# Altium integrated library TI Amplifiers and Linear Operational Amplifier Fully Differential Amplifier.IntLib: 262 symbols (part 1 of 11)
Pins are listed as number, name and electrical type; pins without a type are passive.

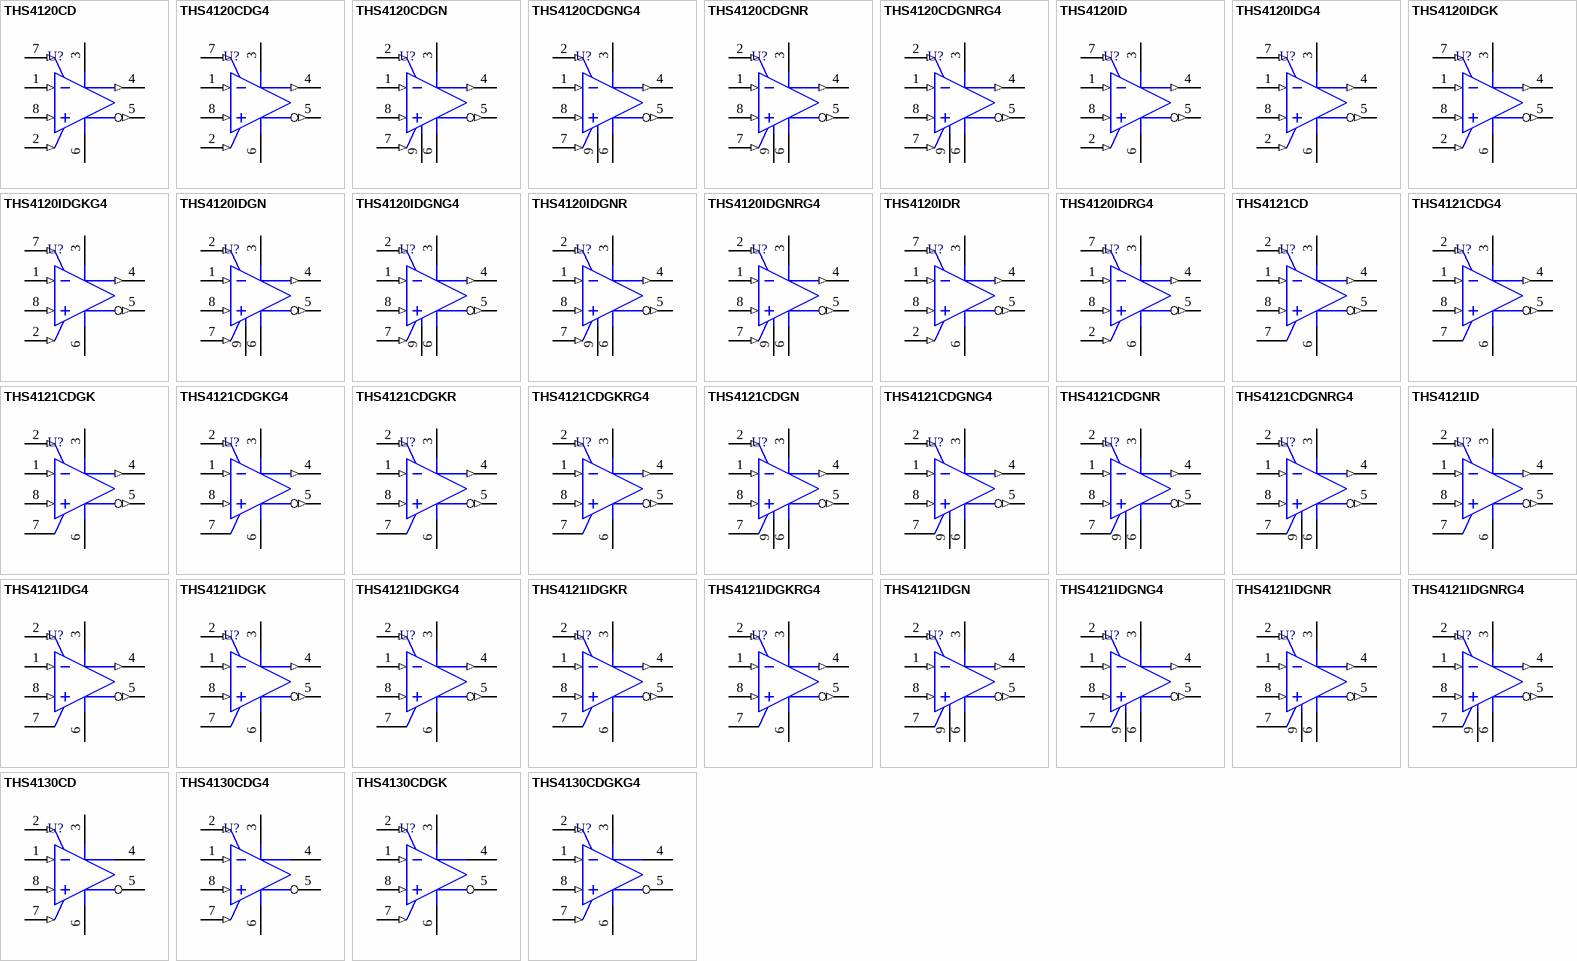
[diagram p0: symbols THS4120CD to THS4130CDGKG4]

## THS4120CD
designator U?
100 MHz, 43 V/us, Fully Differential CMOS Amplifier with Shutdown, 3 to 3.5 V, 0 to 70 degC, 8-pin SOIC (D8), Green (RoHS & no Sb/Br); Manufacturer: Texas Instruments; PartNumber: THS4120CD; 2nd Harmonic(dBc): 79; 3rd Harmonic(dBc): 93; @ MHz: 1; BW @ Acl(MHz): 100; Iq per channel(Max)(mA): 13.5; Offset Voltage Drift (+/-)(Max)(uV/Degrees Celsius: 25; Settling Time (0.1%)(Typ)(ns): 60; Slew Rate(Typ)(V/us): 55; SubFamily: Fully Differential Amplifier; THD (Fc is 1 MHz)(Typ)(dB): -75; Vio(Max)(mV): 8; Vn at Flatband(Typ)(nV/rtHz): 5.4; Vs(Max)(V): 3.5; Vs(Min)(V): 3; DatasheetVersion: SLOS319D; PackageVersion: 4040047-3/M, 06/2011; PackageReference: D8; PackageDescription: 8-Pin Plastic Small Outline, Body 4.9 x 3.9 mm, Pitch 1.27 mm; Supplier 1: Digi-Key; Supplier Part Number 1: THS4120CD-ND; Supplier 2: Mouser; Supplier Part Number 2: 595-THS4120CD; Eco-Plan: Green (RoHS & no Sb/Br); Io(Typ)(mA): 100; Number of Channels: 1; Mounting Technology: Surface Mount; Code_JEDEC: MS-012; ComponentLink1Description: Manufacturer URL; ComponentLink1URL: http://www.ti.com/; ComponentLink2Description: Datasheet; ComponentLink2URL: http://www.ti.com/general/docs/lit/getliterature.tsp?genericPartNumber=THS4120&fileType=pdf; ComponentLink3Description: Package Specification; ComponentLink3URL: http://www.ti.com/litv/pdf/msoi002j
footprint TI-D8_N (SOIC, 8-Leads, Body 4.9x3.9mm, Pitch 1.27mm, IPC Medium Density)
footprint TI-D8_L (SOIC, 8-Leads, Body 4.9x3.9mm, Pitch 1.27mm, IPC High Density)
footprint TI-D8_M (SOIC, 8-Leads, Body 4.9x3.9mm, Pitch 1.27mm, IPC Low Density)
pins: 1 VIN- (in), 2 VOCM (in), 3 VDD (power), 4 VOUT+ (out), 5 VOUT- (out), 6 GND (power), 7 ~{PD} (in), 8 VIN+ (in)

## THS4120CDG4
designator U?
100 MHz, 43 V/us, Fully Differential CMOS Amplifier with Shutdown, 3 to 3.5 V, 0 to 70 degC, 8-pin SOIC (D8), Green (RoHS & no Sb/Br); Manufacturer: Texas Instruments; PartNumber: THS4120CDG4; 2nd Harmonic(dBc): 79; 3rd Harmonic(dBc): 93; @ MHz: 1; BW @ Acl(MHz): 100; Iq per channel(Max)(mA): 13.5; Offset Voltage Drift (+/-)(Max)(uV/Degrees Celsius: 25; Settling Time (0.1%)(Typ)(ns): 60; Slew Rate(Typ)(V/us): 55; SubFamily: Fully Differential Amplifier; THD (Fc is 1 MHz)(Typ)(dB): -75; Vio(Max)(mV): 8; Vn at Flatband(Typ)(nV/rtHz): 5.4; Vs(Max)(V): 3.5; Vs(Min)(V): 3; DatasheetVersion: SLOS319D; PackageVersion: 4040047-3/M, 06/2011; PackageReference: D8; PackageDescription: 8-Pin Plastic Small Outline, Body 4.9 x 3.9 mm, Pitch 1.27 mm; Supplier 1: Digi-Key; Supplier Part Number 1: THS4120CDG4-ND; Supplier 2: Newark; Supplier Part Number 2: 41M5385; Supplier 3: Mouser; Supplier Part Number 3: 595-THS4120CDG4; Eco-Plan: Green (RoHS & no Sb/Br); Io(Typ)(mA): 100; Number of Channels: 1; Mounting Technology: Surface Mount; Code_JEDEC: MS-012; ComponentLink1Description: Manufacturer URL; ComponentLink1URL: http://www.ti.com/; ComponentLink2Description: Datasheet; ComponentLink2URL: http://www.ti.com/general/docs/lit/getliterature.tsp?genericPartNumber=THS4120&fileType=pdf; ComponentLink3Description: Package Specification; ComponentLink3URL: http://www.ti.com/litv/pdf/msoi002j
footprint TI-D8_N (SOIC, 8-Leads, Body 4.9x3.9mm, Pitch 1.27mm, IPC Medium Density)
footprint TI-D8_L (SOIC, 8-Leads, Body 4.9x3.9mm, Pitch 1.27mm, IPC High Density)
footprint TI-D8_M (SOIC, 8-Leads, Body 4.9x3.9mm, Pitch 1.27mm, IPC Low Density)
pins: 1 VIN- (in), 2 VOCM (in), 3 VDD (power), 4 VOUT+ (out), 5 VOUT- (out), 6 GND (power), 7 ~{PD} (in), 8 VIN+ (in)

## THS4120CDGN
designator U?
100 MHz, 43 V/us, Fully Differential CMOS Amplifier with Shutdown, 3 to 3.5 V, 0 to 70 degC, 8-pin SOP (DGN8), Green (RoHS & no Sb/Br); Manufacturer: Texas Instruments; PartNumber: THS4120CDGN; 2nd Harmonic(dBc): 79; 3rd Harmonic(dBc): 93; @ MHz: 1; BW @ Acl(MHz): 100; Iq per channel(Max)(mA): 13.5; Offset Voltage Drift (+/-)(Max)(uV/Degrees Celsius: 25; Settling Time (0.1%)(Typ)(ns): 60; Slew Rate(Typ)(V/us): 55; SubFamily: Fully Differential Amplifier; THD (Fc is 1 MHz)(Typ)(dB): -75; Vio(Max)(mV): 8; Vn at Flatband(Typ)(nV/rtHz): 5.4; Vs(Max)(V): 3.5; Vs(Min)(V): 3; DatasheetVersion: SLOS319D; PackageVersion: 4073271/F, 05/2011; PackageReference: DGN8-1760X1425TP; PackageDescription: 8-Pin Plastic Small Outline, Body 3 x 3 mm, Pitch 0.65 mm; Supplier 1: Digi-Key; Supplier Part Number 1: 296-34211-5-ND; Supplier 2: Mouser; Supplier Part Number 2: 595-THS4120CDGN; Eco-Plan: Green (RoHS & no Sb/Br); Io(Typ)(mA): 100; Number of Channels: 1; Mounting Technology: Surface Mount; Code_JEDEC: MO-187; ComponentLink1Description: Manufacturer URL; ComponentLink1URL: http://www.ti.com/; ComponentLink2Description: Datasheet; ComponentLink2URL: http://www.ti.com/general/docs/lit/getliterature.tsp?genericPartNumber=THS4120&fileType=pdf; ComponentLink3Description: Package Specification; ComponentLink3URL: http://www.ti.com/litv/pdf/mpds046e
footprint TI-DGN8-1760X1425TP_N (SOP, 8-Leads, Body 3x3mm, Pitch 0.65mm, Thermal Pad 1.76x1.425mm, IPC Medium Density)
footprint TI-DGN8-1760X1425TP_L (SOP, 8-Leads, Body 3x3mm, Pitch 0.65mm, Thermal Pad 1.76x1.425mm, IPC High Density)
footprint TI-DGN8-1760X1425TP_M (SOP, 8-Leads, Body 3x3mm, Pitch 0.65mm, Thermal Pad 1.76 x 1.425 mm, IPC Low Density)
pins: 1 VIN- (in), 2 VOCM (in), 3 VDD (power), 4 VOUT+ (out), 5 VOUT- (out), 6 GND (power), 7 ~{PD} (in), 8 VIN+ (in), 9 EP

## THS4120CDGNG4
designator U?
100 MHz, 43 V/us, Fully Differential CMOS Amplifier with Shutdown, 3 to 3.5 V, 0 to 70 degC, 8-pin SOP (DGN8), Green (RoHS & no Sb/Br); Manufacturer: Texas Instruments; PartNumber: THS4120CDGNG4; 2nd Harmonic(dBc): 79; 3rd Harmonic(dBc): 93; @ MHz: 1; BW @ Acl(MHz): 100; Iq per channel(Max)(mA): 13.5; Offset Voltage Drift (+/-)(Max)(uV/Degrees Celsius: 25; Settling Time (0.1%)(Typ)(ns): 60; Slew Rate(Typ)(V/us): 55; SubFamily: Fully Differential Amplifier; THD (Fc is 1 MHz)(Typ)(dB): -75; Vio(Max)(mV): 8; Vn at Flatband(Typ)(nV/rtHz): 5.4; Vs(Max)(V): 3.5; Vs(Min)(V): 3; DatasheetVersion: SLOS319D; PackageVersion: 4073271/F, 05/2011; PackageReference: DGN8-1760X1425TP; PackageDescription: 8-Pin Plastic Small Outline, Body 3 x 3 mm, Pitch 0.65 mm; Supplier 1: Digi-Key; Supplier Part Number 1: THS4120CDGNG4-ND; Supplier 2: Mouser; Supplier Part Number 2: 595-THS4120CDGNG4; Eco-Plan: Green (RoHS & no Sb/Br); Io(Typ)(mA): 100; Number of Channels: 1; Mounting Technology: Surface Mount; Code_JEDEC: MO-187; ComponentLink1Description: Manufacturer URL; ComponentLink1URL: http://www.ti.com/; ComponentLink2Description: Datasheet; ComponentLink2URL: http://www.ti.com/general/docs/lit/getliterature.tsp?genericPartNumber=THS4120&fileType=pdf; ComponentLink3Description: Package Specification; ComponentLink3URL: http://www.ti.com/litv/pdf/mpds046e
footprint TI-DGN8-1760X1425TP_N (SOP, 8-Leads, Body 3x3mm, Pitch 0.65mm, Thermal Pad 1.76x1.425mm, IPC Medium Density)
footprint TI-DGN8-1760X1425TP_L (SOP, 8-Leads, Body 3x3mm, Pitch 0.65mm, Thermal Pad 1.76x1.425mm, IPC High Density)
footprint TI-DGN8-1760X1425TP_M (SOP, 8-Leads, Body 3x3mm, Pitch 0.65mm, Thermal Pad 1.76 x 1.425 mm, IPC Low Density)
pins: 1 VIN- (in), 2 VOCM (in), 3 VDD (power), 4 VOUT+ (out), 5 VOUT- (out), 6 GND (power), 7 ~{PD} (in), 8 VIN+ (in), 9 EP

## THS4120CDGNR
designator U?
100 MHz, 43 V/us, Fully Differential CMOS Amplifier with Shutdown, 3 to 3.5 V, 0 to 70 degC, 8-pin SOP (DGN8), Green (RoHS & no Sb/Br); Manufacturer: Texas Instruments; PartNumber: THS4120CDGNR; 2nd Harmonic(dBc): 79; 3rd Harmonic(dBc): 93; @ MHz: 1; BW @ Acl(MHz): 100; Iq per channel(Max)(mA): 13.5; Offset Voltage Drift (+/-)(Max)(uV/Degrees Celsius: 25; Settling Time (0.1%)(Typ)(ns): 60; Slew Rate(Typ)(V/us): 55; SubFamily: Fully Differential Amplifier; THD (Fc is 1 MHz)(Typ)(dB): -75; Vio(Max)(mV): 8; Vn at Flatband(Typ)(nV/rtHz): 5.4; Vs(Max)(V): 3.5; Vs(Min)(V): 3; DatasheetVersion: SLOS319D; PackageVersion: 4073271/F, 05/2011; PackageReference: DGN8-1760X1425TP; PackageDescription: 8-Pin Plastic Small Outline, Body 3 x 3 mm, Pitch 0.65 mm; Supplier 1: Digi-Key; Supplier Part Number 1: THS4120CDGNR-ND; Supplier 2: Mouser; Supplier Part Number 2: 595-THS4120CDGNR; Eco-Plan: Green (RoHS & no Sb/Br); Io(Typ)(mA): 100; Number of Channels: 1; Mounting Technology: Surface Mount; Code_JEDEC: MO-187; ComponentLink1Description: Manufacturer URL; ComponentLink1URL: http://www.ti.com/; ComponentLink2Description: Datasheet; ComponentLink2URL: http://www.ti.com/general/docs/lit/getliterature.tsp?genericPartNumber=THS4120&fileType=pdf; ComponentLink3Description: Package Specification; ComponentLink3URL: http://www.ti.com/litv/pdf/mpds046e
footprint TI-DGN8-1760X1425TP_N (SOP, 8-Leads, Body 3x3mm, Pitch 0.65mm, Thermal Pad 1.76x1.425mm, IPC Medium Density)
footprint TI-DGN8-1760X1425TP_L (SOP, 8-Leads, Body 3x3mm, Pitch 0.65mm, Thermal Pad 1.76x1.425mm, IPC High Density)
footprint TI-DGN8-1760X1425TP_M (SOP, 8-Leads, Body 3x3mm, Pitch 0.65mm, Thermal Pad 1.76 x 1.425 mm, IPC Low Density)
pins: 1 VIN- (in), 2 VOCM (in), 3 VDD (power), 4 VOUT+ (out), 5 VOUT- (out), 6 GND (power), 7 ~{PD} (in), 8 VIN+ (in), 9 EP

## THS4120CDGNRG4
designator U?
100 MHz, 43 V/us, Fully Differential CMOS Amplifier with Shutdown, 3 to 3.5 V, 0 to 70 degC, 8-pin SOP (DGN8), Green (RoHS & no Sb/Br); Manufacturer: Texas Instruments; PartNumber: THS4120CDGNRG4; 2nd Harmonic(dBc): 79; 3rd Harmonic(dBc): 93; @ MHz: 1; BW @ Acl(MHz): 100; Iq per channel(Max)(mA): 13.5; Offset Voltage Drift (+/-)(Max)(uV/Degrees Celsius: 25; Settling Time (0.1%)(Typ)(ns): 60; Slew Rate(Typ)(V/us): 55; SubFamily: Fully Differential Amplifier; THD (Fc is 1 MHz)(Typ)(dB): -75; Vio(Max)(mV): 8; Vn at Flatband(Typ)(nV/rtHz): 5.4; Vs(Max)(V): 3.5; Vs(Min)(V): 3; DatasheetVersion: SLOS319D; PackageVersion: 4073271/F, 05/2011; PackageReference: DGN8-1760X1425TP; PackageDescription: 8-Pin Plastic Small Outline, Body 3 x 3 mm, Pitch 0.65 mm; Supplier 1: Digi-Key; Supplier Part Number 1: THS4120CDGNRG4-ND; Supplier 2: Mouser; Supplier Part Number 2: 595-THS4120CDGNRG4; Eco-Plan: Green (RoHS & no Sb/Br); Io(Typ)(mA): 100; Number of Channels: 1; Mounting Technology: Surface Mount; Code_JEDEC: MO-187; ComponentLink1Description: Manufacturer URL; ComponentLink1URL: http://www.ti.com/; ComponentLink2Description: Datasheet; ComponentLink2URL: http://www.ti.com/general/docs/lit/getliterature.tsp?genericPartNumber=THS4120&fileType=pdf; ComponentLink3Description: Package Specification; ComponentLink3URL: http://www.ti.com/litv/pdf/mpds046e
footprint TI-DGN8-1760X1425TP_N (SOP, 8-Leads, Body 3x3mm, Pitch 0.65mm, Thermal Pad 1.76x1.425mm, IPC Medium Density)
footprint TI-DGN8-1760X1425TP_L (SOP, 8-Leads, Body 3x3mm, Pitch 0.65mm, Thermal Pad 1.76x1.425mm, IPC High Density)
footprint TI-DGN8-1760X1425TP_M (SOP, 8-Leads, Body 3x3mm, Pitch 0.65mm, Thermal Pad 1.76 x 1.425 mm, IPC Low Density)
pins: 1 VIN- (in), 2 VOCM (in), 3 VDD (power), 4 VOUT+ (out), 5 VOUT- (out), 6 GND (power), 7 ~{PD} (in), 8 VIN+ (in), 9 EP

## THS4120ID
designator U?
100 MHz, 43 V/us, Fully Differential CMOS Amplifier with Shutdown, 3 to 3.5 V, -40 to 85 degC, 8-pin SOIC (D8), Green (RoHS & no Sb/Br); Manufacturer: Texas Instruments; PartNumber: THS4120ID; 2nd Harmonic(dBc): 79; 3rd Harmonic(dBc): 93; @ MHz: 1; BW @ Acl(MHz): 100; Iq per channel(Max)(mA): 13.5; Offset Voltage Drift (+/-)(Max)(uV/Degrees Celsius: 25; Settling Time (0.1%)(Typ)(ns): 60; Slew Rate(Typ)(V/us): 55; SubFamily: Fully Differential Amplifier; THD (Fc is 1 MHz)(Typ)(dB): -75; Vio(Max)(mV): 8; Vn at Flatband(Typ)(nV/rtHz): 5.4; Vs(Max)(V): 3.5; Vs(Min)(V): 3; DatasheetVersion: SLOS319D; PackageVersion: 4040047-3/M, 06/2011; PackageReference: D8; PackageDescription: 8-Pin Plastic Small Outline, Body 4.9 x 3.9 mm, Pitch 1.27 mm; Supplier 1: Digi-Key; Supplier Part Number 1: 296-11983-5-ND; Supplier 2: Newark; Supplier Part Number 2: 76C6389; Supplier 3: Mouser; Supplier Part Number 3: 595-THS4120ID; Eco-Plan: Green (RoHS & no Sb/Br); Io(Typ)(mA): 100; Number of Channels: 1; Mounting Technology: Surface Mount; Code_JEDEC: MS-012; ComponentLink1Description: Manufacturer URL; ComponentLink1URL: http://www.ti.com/; ComponentLink2Description: Datasheet; ComponentLink2URL: http://www.ti.com/general/docs/lit/getliterature.tsp?genericPartNumber=THS4120&fileType=pdf; ComponentLink3Description: Package Specification; ComponentLink3URL: http://www.ti.com/litv/pdf/msoi002j
footprint TI-D8_N (SOIC, 8-Leads, Body 4.9x3.9mm, Pitch 1.27mm, IPC Medium Density)
footprint TI-D8_L (SOIC, 8-Leads, Body 4.9x3.9mm, Pitch 1.27mm, IPC High Density)
footprint TI-D8_M (SOIC, 8-Leads, Body 4.9x3.9mm, Pitch 1.27mm, IPC Low Density)
pins: 1 VIN- (in), 2 VOCM (in), 3 VDD (power), 4 VOUT+ (out), 5 VOUT- (out), 6 GND (power), 7 ~{PD} (in), 8 VIN+ (in)

## THS4120IDG4
designator U?
100 MHz, 43 V/us, Fully Differential CMOS Amplifier with Shutdown, 3 to 3.5 V, -40 to 85 degC, 8-pin SOIC (D8), Green (RoHS & no Sb/Br); Manufacturer: Texas Instruments; PartNumber: THS4120IDG4; 2nd Harmonic(dBc): 79; 3rd Harmonic(dBc): 93; @ MHz: 1; BW @ Acl(MHz): 100; Iq per channel(Max)(mA): 13.5; Offset Voltage Drift (+/-)(Max)(uV/Degrees Celsius: 25; Settling Time (0.1%)(Typ)(ns): 60; Slew Rate(Typ)(V/us): 55; SubFamily: Fully Differential Amplifier; THD (Fc is 1 MHz)(Typ)(dB): -75; Vio(Max)(mV): 8; Vn at Flatband(Typ)(nV/rtHz): 5.4; Vs(Max)(V): 3.5; Vs(Min)(V): 3; DatasheetVersion: SLOS319D; PackageVersion: 4040047-3/M, 06/2011; PackageReference: D8; PackageDescription: 8-Pin Plastic Small Outline, Body 4.9 x 3.9 mm, Pitch 1.27 mm; Supplier 1: Digi-Key; Supplier Part Number 1: THS4120IDG4-ND; Supplier 2: Newark; Supplier Part Number 2: 28M7730; Supplier 3: Mouser; Supplier Part Number 3: 595-THS4120IDG4; Eco-Plan: Green (RoHS & no Sb/Br); Io(Typ)(mA): 100; Number of Channels: 1; Mounting Technology: Surface Mount; Code_JEDEC: MS-012; ComponentLink1Description: Manufacturer URL; ComponentLink1URL: http://www.ti.com/; ComponentLink2Description: Datasheet; ComponentLink2URL: http://www.ti.com/general/docs/lit/getliterature.tsp?genericPartNumber=THS4120&fileType=pdf; ComponentLink3Description: Package Specification; ComponentLink3URL: http://www.ti.com/litv/pdf/msoi002j
footprint TI-D8_N (SOIC, 8-Leads, Body 4.9x3.9mm, Pitch 1.27mm, IPC Medium Density)
footprint TI-D8_L (SOIC, 8-Leads, Body 4.9x3.9mm, Pitch 1.27mm, IPC High Density)
footprint TI-D8_M (SOIC, 8-Leads, Body 4.9x3.9mm, Pitch 1.27mm, IPC Low Density)
pins: 1 VIN- (in), 2 VOCM (in), 3 VDD (power), 4 VOUT+ (out), 5 VOUT- (out), 6 GND (power), 7 ~{PD} (in), 8 VIN+ (in)

## THS4120IDGK
designator U?
100 MHz, 43 V/us, Fully Differential CMOS Amplifier with Shutdown, 3 to 3.5 V, -40 to 85 degC, 8-pin SOP (DGK8), Green (RoHS & no Sb/Br); Manufacturer: Texas Instruments; PartNumber: THS4120IDGK; 2nd Harmonic(dBc): 79; 3rd Harmonic(dBc): 93; @ MHz: 1; BW @ Acl(MHz): 100; Iq per channel(Max)(mA): 13.5; Offset Voltage Drift (+/-)(Max)(uV/Degrees Celsius: 25; Settling Time (0.1%)(Typ)(ns): 60; Slew Rate(Typ)(V/us): 55; SubFamily: Fully Differential Amplifier; THD (Fc is 1 MHz)(Typ)(dB): -75; Vio(Max)(mV): 8; Vn at Flatband(Typ)(nV/rtHz): 5.4; Vs(Max)(V): 3.5; Vs(Min)(V): 3; DatasheetVersion: SLOS319D; PackageVersion: 4073329/E, 05/2006; PackageReference: DGK8; PackageDescription: 8-Pin Thin Small Outline, Body 3 x 3 mm, Pitch 0.65 mm; Supplier 1: Digi-Key; Supplier Part Number 1: 296-18846-5-ND; Supplier 2: Mouser; Supplier Part Number 2: 595-THS4120IDGK; Eco-Plan: Green (RoHS & no Sb/Br); Io(Typ)(mA): 100; Number of Channels: 1; Mounting Technology: Surface Mount; Code_JEDEC: MO-187; ComponentLink1Description: Manufacturer URL; ComponentLink1URL: http://www.ti.com/; ComponentLink2Description: Datasheet; ComponentLink2URL: http://www.ti.com/general/docs/lit/getliterature.tsp?genericPartNumber=THS4120&fileType=pdf; ComponentLink3Description: Package Specification; ComponentLink3URL: http://www.ti.com/litv/pdf/mpds028d
footprint TI-DGK8_N (SOP, 8-Leads, Body 3x3mm, Pitch 0.65mm, IPC Medium Density)
footprint TI-DGK8_L (SOP, 8-Leads, Body 3x3mm, Pitch 0.65mm, IPC High Density)
footprint TI-DGK8_M (SOP, 8-Leads, Body 3x3mm, Pitch 0.65mm, IPC Low Density)
pins: 1 VIN- (in), 2 VOCM (in), 3 VDD (power), 4 VOUT+ (out), 5 VOUT- (out), 6 GND (power), 7 ~{PD} (in), 8 VIN+ (in)

## THS4120IDGKG4
designator U?
100 MHz, 43 V/us, Fully Differential CMOS Amplifier with Shutdown, 3 to 3.5 V, -40 to 85 degC, 8-pin SOP (DGK8), Green (RoHS & no Sb/Br); Manufacturer: Texas Instruments; PartNumber: THS4120IDGKG4; 2nd Harmonic(dBc): 79; 3rd Harmonic(dBc): 93; @ MHz: 1; BW @ Acl(MHz): 100; Iq per channel(Max)(mA): 13.5; Offset Voltage Drift (+/-)(Max)(uV/Degrees Celsius: 25; Settling Time (0.1%)(Typ)(ns): 60; Slew Rate(Typ)(V/us): 55; SubFamily: Fully Differential Amplifier; THD (Fc is 1 MHz)(Typ)(dB): -75; Vio(Max)(mV): 8; Vn at Flatband(Typ)(nV/rtHz): 5.4; Vs(Max)(V): 3.5; Vs(Min)(V): 3; DatasheetVersion: SLOS319D; PackageVersion: 4073329/E, 05/2006; PackageReference: DGK8; PackageDescription: 8-Pin Thin Small Outline, Body 3 x 3 mm, Pitch 0.65 mm; Supplier 1: Digi-Key; Supplier Part Number 1: THS4120IDGKG4-ND; Supplier 2: Mouser; Supplier Part Number 2: 595-THS4120IDGKG4; Eco-Plan: Green (RoHS & no Sb/Br); Io(Typ)(mA): 100; Number of Channels: 1; Mounting Technology: Surface Mount; Code_JEDEC: MO-187; ComponentLink1Description: Manufacturer URL; ComponentLink1URL: http://www.ti.com/; ComponentLink2Description: Datasheet; ComponentLink2URL: http://www.ti.com/general/docs/lit/getliterature.tsp?genericPartNumber=THS4120&fileType=pdf; ComponentLink3Description: Package Specification; ComponentLink3URL: http://www.ti.com/litv/pdf/mpds028d
footprint TI-DGK8_N (SOP, 8-Leads, Body 3x3mm, Pitch 0.65mm, IPC Medium Density)
footprint TI-DGK8_L (SOP, 8-Leads, Body 3x3mm, Pitch 0.65mm, IPC High Density)
footprint TI-DGK8_M (SOP, 8-Leads, Body 3x3mm, Pitch 0.65mm, IPC Low Density)
pins: 1 VIN- (in), 2 VOCM (in), 3 VDD (power), 4 VOUT+ (out), 5 VOUT- (out), 6 GND (power), 7 ~{PD} (in), 8 VIN+ (in)

## THS4120IDGN
designator U?
100 MHz, 43 V/us, Fully Differential CMOS Amplifier with Shutdown, 3 to 3.5 V, -40 to 85 degC, 8-pin SOP (DGN8), Green (RoHS & no Sb/Br); Manufacturer: Texas Instruments; PartNumber: THS4120IDGN; 2nd Harmonic(dBc): 79; 3rd Harmonic(dBc): 93; @ MHz: 1; BW @ Acl(MHz): 100; Iq per channel(Max)(mA): 13.5; Offset Voltage Drift (+/-)(Max)(uV/Degrees Celsius: 25; Settling Time (0.1%)(Typ)(ns): 60; Slew Rate(Typ)(V/us): 55; SubFamily: Fully Differential Amplifier; THD (Fc is 1 MHz)(Typ)(dB): -75; Vio(Max)(mV): 8; Vn at Flatband(Typ)(nV/rtHz): 5.4; Vs(Max)(V): 3.5; Vs(Min)(V): 3; DatasheetVersion: SLOS319D; PackageVersion: 4073271/F, 05/2011; PackageReference: DGN8-1760X1425TP; PackageDescription: 8-Pin Plastic Small Outline, Body 3 x 3 mm, Pitch 0.65 mm; Supplier 1: Digi-Key; Supplier Part Number 1: THS4120IDGN-ND; Supplier 2: Mouser; Supplier Part Number 2: 595-THS4120IDGN; Eco-Plan: Green (RoHS & no Sb/Br); Io(Typ)(mA): 100; Number of Channels: 1; Mounting Technology: Surface Mount; Code_JEDEC: MO-187; ComponentLink1Description: Manufacturer URL; ComponentLink1URL: http://www.ti.com/; ComponentLink2Description: Datasheet; ComponentLink2URL: http://www.ti.com/general/docs/lit/getliterature.tsp?genericPartNumber=THS4120&fileType=pdf; ComponentLink3Description: Package Specification; ComponentLink3URL: http://www.ti.com/litv/pdf/mpds046e
footprint TI-DGN8-1760X1425TP_N (SOP, 8-Leads, Body 3x3mm, Pitch 0.65mm, Thermal Pad 1.76x1.425mm, IPC Medium Density)
footprint TI-DGN8-1760X1425TP_L (SOP, 8-Leads, Body 3x3mm, Pitch 0.65mm, Thermal Pad 1.76x1.425mm, IPC High Density)
footprint TI-DGN8-1760X1425TP_M (SOP, 8-Leads, Body 3x3mm, Pitch 0.65mm, Thermal Pad 1.76 x 1.425 mm, IPC Low Density)
pins: 1 VIN- (in), 2 VOCM (in), 3 VDD (power), 4 VOUT+ (out), 5 VOUT- (out), 6 GND (power), 7 ~{PD} (in), 8 VIN+ (in), 9 EP

## THS4120IDGNG4
designator U?
100 MHz, 43 V/us, Fully Differential CMOS Amplifier with Shutdown, 3 to 3.5 V, -40 to 85 degC, 8-pin SOP (DGN8), Green (RoHS & no Sb/Br); Manufacturer: Texas Instruments; PartNumber: THS4120IDGNG4; 2nd Harmonic(dBc): 79; 3rd Harmonic(dBc): 93; @ MHz: 1; BW @ Acl(MHz): 100; Iq per channel(Max)(mA): 13.5; Offset Voltage Drift (+/-)(Max)(uV/Degrees Celsius: 25; Settling Time (0.1%)(Typ)(ns): 60; Slew Rate(Typ)(V/us): 55; SubFamily: Fully Differential Amplifier; THD (Fc is 1 MHz)(Typ)(dB): -75; Vio(Max)(mV): 8; Vn at Flatband(Typ)(nV/rtHz): 5.4; Vs(Max)(V): 3.5; Vs(Min)(V): 3; DatasheetVersion: SLOS319D; PackageVersion: 4073271/F, 05/2011; PackageReference: DGN8-1760X1425TP; PackageDescription: 8-Pin Plastic Small Outline, Body 3 x 3 mm, Pitch 0.65 mm; Supplier 1: Digi-Key; Supplier Part Number 1: THS4120IDGNG4-ND; Supplier 2: Mouser; Supplier Part Number 2: 595-THS4120IDGNG4; Eco-Plan: Green (RoHS & no Sb/Br); Io(Typ)(mA): 100; Number of Channels: 1; Mounting Technology: Surface Mount; Code_JEDEC: MO-187; ComponentLink1Description: Manufacturer URL; ComponentLink1URL: http://www.ti.com/; ComponentLink2Description: Datasheet; ComponentLink2URL: http://www.ti.com/general/docs/lit/getliterature.tsp?genericPartNumber=THS4120&fileType=pdf; ComponentLink3Description: Package Specification; ComponentLink3URL: http://www.ti.com/litv/pdf/mpds046e
footprint TI-DGN8-1760X1425TP_N (SOP, 8-Leads, Body 3x3mm, Pitch 0.65mm, Thermal Pad 1.76x1.425mm, IPC Medium Density)
footprint TI-DGN8-1760X1425TP_L (SOP, 8-Leads, Body 3x3mm, Pitch 0.65mm, Thermal Pad 1.76x1.425mm, IPC High Density)
footprint TI-DGN8-1760X1425TP_M (SOP, 8-Leads, Body 3x3mm, Pitch 0.65mm, Thermal Pad 1.76 x 1.425 mm, IPC Low Density)
pins: 1 VIN- (in), 2 VOCM (in), 3 VDD (power), 4 VOUT+ (out), 5 VOUT- (out), 6 GND (power), 7 ~{PD} (in), 8 VIN+ (in), 9 EP

## THS4120IDGNR
designator U?
100 MHz, 43 V/us, Fully Differential CMOS Amplifier with Shutdown, 3 to 3.5 V, -40 to 85 degC, 8-pin SOP (DGN8), Green (RoHS & no Sb/Br); Manufacturer: Texas Instruments; PartNumber: THS4120IDGNR; 2nd Harmonic(dBc): 79; 3rd Harmonic(dBc): 93; @ MHz: 1; BW @ Acl(MHz): 100; Iq per channel(Max)(mA): 13.5; Offset Voltage Drift (+/-)(Max)(uV/Degrees Celsius: 25; Settling Time (0.1%)(Typ)(ns): 60; Slew Rate(Typ)(V/us): 55; SubFamily: Fully Differential Amplifier; THD (Fc is 1 MHz)(Typ)(dB): -75; Vio(Max)(mV): 8; Vn at Flatband(Typ)(nV/rtHz): 5.4; Vs(Max)(V): 3.5; Vs(Min)(V): 3; DatasheetVersion: SLOS319D; PackageVersion: 4073271/F, 05/2011; PackageReference: DGN8-1760X1425TP; PackageDescription: 8-Pin Plastic Small Outline, Body 3 x 3 mm, Pitch 0.65 mm; Supplier 1: Digi-Key; Supplier Part Number 1: 296-12493-2-ND; Supplier 2: Digi-Key; Supplier Part Number 2: 296-12493-1-ND; Supplier 3: Newark; Supplier Part Number 3: 76C6391; Supplier 4: Mouser; Supplier Part Number 4: 595-THS4120IDGNR; Eco-Plan: Green (RoHS & no Sb/Br); Io(Typ)(mA): 100; Number of Channels: 1; Mounting Technology: Surface Mount; Code_JEDEC: MO-187; ComponentLink1Description: Manufacturer URL; ComponentLink1URL: http://www.ti.com/; ComponentLink2Description: Datasheet; ComponentLink2URL: http://www.ti.com/general/docs/lit/getliterature.tsp?genericPartNumber=THS4120&fileType=pdf; ComponentLink3Description: Package Specification; ComponentLink3URL: http://www.ti.com/litv/pdf/mpds046e
footprint TI-DGN8-1760X1425TP_N (SOP, 8-Leads, Body 3x3mm, Pitch 0.65mm, Thermal Pad 1.76x1.425mm, IPC Medium Density)
footprint TI-DGN8-1760X1425TP_L (SOP, 8-Leads, Body 3x3mm, Pitch 0.65mm, Thermal Pad 1.76x1.425mm, IPC High Density)
footprint TI-DGN8-1760X1425TP_M (SOP, 8-Leads, Body 3x3mm, Pitch 0.65mm, Thermal Pad 1.76 x 1.425 mm, IPC Low Density)
pins: 1 VIN- (in), 2 VOCM (in), 3 VDD (power), 4 VOUT+ (out), 5 VOUT- (out), 6 GND (power), 7 ~{PD} (in), 8 VIN+ (in), 9 EP

## THS4120IDGNRG4
designator U?
100 MHz, 43 V/us, Fully Differential CMOS Amplifier with Shutdown, 3 to 3.5 V, -40 to 85 degC, 8-pin SOP (DGN8), Green (RoHS & no Sb/Br); Manufacturer: Texas Instruments; PartNumber: THS4120IDGNRG4; 2nd Harmonic(dBc): 79; 3rd Harmonic(dBc): 93; @ MHz: 1; BW @ Acl(MHz): 100; Iq per channel(Max)(mA): 13.5; Offset Voltage Drift (+/-)(Max)(uV/Degrees Celsius: 25; Settling Time (0.1%)(Typ)(ns): 60; Slew Rate(Typ)(V/us): 55; SubFamily: Fully Differential Amplifier; THD (Fc is 1 MHz)(Typ)(dB): -75; Vio(Max)(mV): 8; Vn at Flatband(Typ)(nV/rtHz): 5.4; Vs(Max)(V): 3.5; Vs(Min)(V): 3; DatasheetVersion: SLOS319D; PackageVersion: 4073271/F, 05/2011; PackageReference: DGN8-1760X1425TP; PackageDescription: 8-Pin Plastic Small Outline, Body 3 x 3 mm, Pitch 0.65 mm; Supplier 1: Digi-Key; Supplier Part Number 1: THS4120IDGNRG4-ND; Supplier 2: Mouser; Supplier Part Number 2: 595-THS4120IDGNRG4; Eco-Plan: Green (RoHS & no Sb/Br); Io(Typ)(mA): 100; Number of Channels: 1; Mounting Technology: Surface Mount; Code_JEDEC: MO-187; ComponentLink1Description: Manufacturer URL; ComponentLink1URL: http://www.ti.com/; ComponentLink2Description: Datasheet; ComponentLink2URL: http://www.ti.com/general/docs/lit/getliterature.tsp?genericPartNumber=THS4120&fileType=pdf; ComponentLink3Description: Package Specification; ComponentLink3URL: http://www.ti.com/litv/pdf/mpds046e
footprint TI-DGN8-1760X1425TP_N (SOP, 8-Leads, Body 3x3mm, Pitch 0.65mm, Thermal Pad 1.76x1.425mm, IPC Medium Density)
footprint TI-DGN8-1760X1425TP_L (SOP, 8-Leads, Body 3x3mm, Pitch 0.65mm, Thermal Pad 1.76x1.425mm, IPC High Density)
footprint TI-DGN8-1760X1425TP_M (SOP, 8-Leads, Body 3x3mm, Pitch 0.65mm, Thermal Pad 1.76 x 1.425 mm, IPC Low Density)
pins: 1 VIN- (in), 2 VOCM (in), 3 VDD (power), 4 VOUT+ (out), 5 VOUT- (out), 6 GND (power), 7 ~{PD} (in), 8 VIN+ (in), 9 EP

## THS4120IDR
designator U?
100 MHz, 43 V/us, Fully Differential CMOS Amplifier with Shutdown, 3 to 3.5 V, -40 to 85 degC, 8-pin SOIC (D8), Green (RoHS & no Sb/Br); Manufacturer: Texas Instruments; PartNumber: THS4120IDR; 2nd Harmonic(dBc): 79; 3rd Harmonic(dBc): 93; @ MHz: 1; BW @ Acl(MHz): 100; Iq per channel(Max)(mA): 13.5; Offset Voltage Drift (+/-)(Max)(uV/Degrees Celsius: 25; Settling Time (0.1%)(Typ)(ns): 60; Slew Rate(Typ)(V/us): 55; SubFamily: Fully Differential Amplifier; THD (Fc is 1 MHz)(Typ)(dB): -75; Vio(Max)(mV): 8; Vn at Flatband(Typ)(nV/rtHz): 5.4; Vs(Max)(V): 3.5; Vs(Min)(V): 3; DatasheetVersion: SLOS319D; PackageVersion: 4040047-3/M, 06/2011; PackageReference: D8; PackageDescription: 8-Pin Plastic Small Outline, Body 4.9 x 3.9 mm, Pitch 1.27 mm; Supplier 1: Digi-Key; Supplier Part Number 1: 296-11983-2-ND; Supplier 2: Digi-Key; Supplier Part Number 2: 296-11983-1-ND; Supplier 3: Digi-Key; Supplier Part Number 3: 296-11983-6-ND; Supplier 4: Newark; Supplier Part Number 4: 76C6392; Supplier 5: Mouser; Supplier Part Number 5: 595-THS4120IDR; Eco-Plan: Green (RoHS & no Sb/Br); Io(Typ)(mA): 100; Number of Channels: 1; Mounting Technology: Surface Mount; Code_JEDEC: MS-012; ComponentLink1Description: Manufacturer URL; ComponentLink1URL: http://www.ti.com/; ComponentLink2Description: Datasheet; ComponentLink2URL: http://www.ti.com/general/docs/lit/getliterature.tsp?genericPartNumber=THS4120&fileType=pdf; ComponentLink3Description: Package Specification; ComponentLink3URL: http://www.ti.com/litv/pdf/msoi002j
footprint TI-D8_N (SOIC, 8-Leads, Body 4.9x3.9mm, Pitch 1.27mm, IPC Medium Density)
footprint TI-D8_L (SOIC, 8-Leads, Body 4.9x3.9mm, Pitch 1.27mm, IPC High Density)
footprint TI-D8_M (SOIC, 8-Leads, Body 4.9x3.9mm, Pitch 1.27mm, IPC Low Density)
pins: 1 VIN- (in), 2 VOCM (in), 3 VDD (power), 4 VOUT+ (out), 5 VOUT- (out), 6 GND (power), 7 ~{PD} (in), 8 VIN+ (in)

## THS4120IDRG4
designator U?
100 MHz, 43 V/us, Fully Differential CMOS Amplifier with Shutdown, 3 to 3.5 V, -40 to 85 degC, 8-pin SOIC (D8), Green (RoHS & no Sb/Br); Manufacturer: Texas Instruments; PartNumber: THS4120IDRG4; 2nd Harmonic(dBc): 79; 3rd Harmonic(dBc): 93; @ MHz: 1; BW @ Acl(MHz): 100; Iq per channel(Max)(mA): 13.5; Offset Voltage Drift (+/-)(Max)(uV/Degrees Celsius: 25; Settling Time (0.1%)(Typ)(ns): 60; Slew Rate(Typ)(V/us): 55; SubFamily: Fully Differential Amplifier; THD (Fc is 1 MHz)(Typ)(dB): -75; Vio(Max)(mV): 8; Vn at Flatband(Typ)(nV/rtHz): 5.4; Vs(Max)(V): 3.5; Vs(Min)(V): 3; DatasheetVersion: SLOS319D; PackageVersion: 4040047-3/M, 06/2011; PackageReference: D8; PackageDescription: 8-Pin Plastic Small Outline, Body 4.9 x 3.9 mm, Pitch 1.27 mm; Supplier 1: Digi-Key; Supplier Part Number 1: THS4120IDRG4-ND; Supplier 2: Mouser; Supplier Part Number 2: 595-THS4120IDRG4; Eco-Plan: Green (RoHS & no Sb/Br); Io(Typ)(mA): 100; Number of Channels: 1; Mounting Technology: Surface Mount; Code_JEDEC: MS-012; ComponentLink1Description: Manufacturer URL; ComponentLink1URL: http://www.ti.com/; ComponentLink2Description: Datasheet; ComponentLink2URL: http://www.ti.com/general/docs/lit/getliterature.tsp?genericPartNumber=THS4120&fileType=pdf; ComponentLink3Description: Package Specification; ComponentLink3URL: http://www.ti.com/litv/pdf/msoi002j
footprint TI-D8_N (SOIC, 8-Leads, Body 4.9x3.9mm, Pitch 1.27mm, IPC Medium Density)
footprint TI-D8_L (SOIC, 8-Leads, Body 4.9x3.9mm, Pitch 1.27mm, IPC High Density)
footprint TI-D8_M (SOIC, 8-Leads, Body 4.9x3.9mm, Pitch 1.27mm, IPC Low Density)
pins: 1 VIN- (in), 2 VOCM (in), 3 VDD (power), 4 VOUT+ (out), 5 VOUT- (out), 6 GND (power), 7 ~{PD} (in), 8 VIN+ (in)

## THS4121CD
designator U?
100 MHz, 43 V/us, Fully Differential CMOS Amplifier, 3 to 3.5 V, 0 to 70 degC, 8-pin SOIC (D8), Green (RoHS & no Sb/Br); Manufacturer: Texas Instruments; PartNumber: THS4121CD; 2nd Harmonic(dBc): 79; 3rd Harmonic(dBc): 93; @ MHz: 1; BW @ Acl(MHz): 100; Iq per channel(Max)(mA): 13.5; Offset Voltage Drift (+/-)(Max)(uV/Degrees Celsius: 25; Settling Time (0.1%)(Typ)(ns): 60; Slew Rate(Typ)(V/us): 55; SubFamily: Fully Differential Amplifier; THD (Fc is 1 MHz)(Typ)(dB): -75; Vio(Max)(mV): 8; Vn at Flatband(Typ)(nV/rtHz): 5.4; Vs(Max)(V): 3.5; Vs(Min)(V): 3; DatasheetVersion: SLOS319D; PackageVersion: 4040047-3/M, 06/2011; PackageReference: D8; PackageDescription: 8-Pin Plastic Small Outline, Body 4.9 x 3.9 mm, Pitch 1.27 mm; Supplier 1: Digi-Key; Supplier Part Number 1: 296-10041-5-ND; Supplier 2: Newark; Supplier Part Number 2: 76C6393; Supplier 3: Mouser; Supplier Part Number 3: 595-THS4121CD; Eco-Plan: Green (RoHS & no Sb/Br); Io(Typ)(mA): 100; Number of Channels: 1; Mounting Technology: Surface Mount; Code_JEDEC: MS-012; ComponentLink1Description: Manufacturer URL; ComponentLink1URL: http://www.ti.com/; ComponentLink2Description: Datasheet; ComponentLink2URL: http://www.ti.com/general/docs/lit/getliterature.tsp?genericPartNumber=THS4121&fileType=pdf; ComponentLink3Description: Package Specification; ComponentLink3URL: http://www.ti.com/litv/pdf/msoi002j
footprint TI-D8_N (SOIC, 8-Leads, Body 4.9x3.9mm, Pitch 1.27mm, IPC Medium Density)
footprint TI-D8_L (SOIC, 8-Leads, Body 4.9x3.9mm, Pitch 1.27mm, IPC High Density)
footprint TI-D8_M (SOIC, 8-Leads, Body 4.9x3.9mm, Pitch 1.27mm, IPC Low Density)
pins: 1 VIN- (in), 2 VOCM (in), 3 VDD (power), 4 VOUT+ (out), 5 VOUT- (out), 6 GND (power), 7 NC, 8 VIN+ (in)

## THS4121CDG4
designator U?
100 MHz, 43 V/us, Fully Differential CMOS Amplifier, 3 to 3.5 V, 0 to 70 degC, 8-pin SOIC (D8), Green (RoHS & no Sb/Br); Manufacturer: Texas Instruments; PartNumber: THS4121CDG4; 2nd Harmonic(dBc): 79; 3rd Harmonic(dBc): 93; @ MHz: 1; BW @ Acl(MHz): 100; Iq per channel(Max)(mA): 13.5; Offset Voltage Drift (+/-)(Max)(uV/Degrees Celsius: 25; Settling Time (0.1%)(Typ)(ns): 60; Slew Rate(Typ)(V/us): 55; SubFamily: Fully Differential Amplifier; THD (Fc is 1 MHz)(Typ)(dB): -75; Vio(Max)(mV): 8; Vn at Flatband(Typ)(nV/rtHz): 5.4; Vs(Max)(V): 3.5; Vs(Min)(V): 3; DatasheetVersion: SLOS319D; PackageVersion: 4040047-3/M, 06/2011; PackageReference: D8; PackageDescription: 8-Pin Plastic Small Outline, Body 4.9 x 3.9 mm, Pitch 1.27 mm; Supplier 1: Digi-Key; Supplier Part Number 1: THS4121CDG4-ND; Supplier 2: Mouser; Supplier Part Number 2: 595-THS4121CDG4; Eco-Plan: Green (RoHS & no Sb/Br); Io(Typ)(mA): 100; Number of Channels: 1; Mounting Technology: Surface Mount; Code_JEDEC: MS-012; ComponentLink1Description: Manufacturer URL; ComponentLink1URL: http://www.ti.com/; ComponentLink2Description: Datasheet; ComponentLink2URL: http://www.ti.com/general/docs/lit/getliterature.tsp?genericPartNumber=THS4121&fileType=pdf; ComponentLink3Description: Package Specification; ComponentLink3URL: http://www.ti.com/litv/pdf/msoi002j
footprint TI-D8_N (SOIC, 8-Leads, Body 4.9x3.9mm, Pitch 1.27mm, IPC Medium Density)
footprint TI-D8_L (SOIC, 8-Leads, Body 4.9x3.9mm, Pitch 1.27mm, IPC High Density)
footprint TI-D8_M (SOIC, 8-Leads, Body 4.9x3.9mm, Pitch 1.27mm, IPC Low Density)
pins: 1 VIN- (in), 2 VOCM (in), 3 VDD (power), 4 VOUT+ (out), 5 VOUT- (out), 6 GND (power), 7 NC, 8 VIN+ (in)

## THS4121CDGK
designator U?
100 MHz, 43 V/us, Fully Differential CMOS Amplifier, 3 to 3.5 V, 0 to 70 degC, 8-pin SOP (DGK8), Green (RoHS & no Sb/Br); Manufacturer: Texas Instruments; PartNumber: THS4121CDGK; 2nd Harmonic(dBc): 79; 3rd Harmonic(dBc): 93; @ MHz: 1; BW @ Acl(MHz): 100; Iq per channel(Max)(mA): 13.5; Offset Voltage Drift (+/-)(Max)(uV/Degrees Celsius: 25; Settling Time (0.1%)(Typ)(ns): 60; Slew Rate(Typ)(V/us): 55; SubFamily: Fully Differential Amplifier; THD (Fc is 1 MHz)(Typ)(dB): -75; Vio(Max)(mV): 8; Vn at Flatband(Typ)(nV/rtHz): 5.4; Vs(Max)(V): 3.5; Vs(Min)(V): 3; DatasheetVersion: SLOS319D; PackageVersion: 4073329/E, 05/2006; PackageReference: DGK8; PackageDescription: 8-Pin Thin Small Outline, Body 3 x 3 mm, Pitch 0.65 mm; Supplier 1: Digi-Key; Supplier Part Number 1: 296-34212-5-ND; Supplier 2: Mouser; Supplier Part Number 2: 595-THS4121CDGK; Eco-Plan: Green (RoHS & no Sb/Br); Io(Typ)(mA): 100; Number of Channels: 1; Mounting Technology: Surface Mount; Code_JEDEC: MO-187; ComponentLink1Description: Manufacturer URL; ComponentLink1URL: http://www.ti.com/; ComponentLink2Description: Datasheet; ComponentLink2URL: http://www.ti.com/general/docs/lit/getliterature.tsp?genericPartNumber=THS4121&fileType=pdf; ComponentLink3Description: Package Specification; ComponentLink3URL: http://www.ti.com/litv/pdf/mpds028d
footprint TI-DGK8_N (SOP, 8-Leads, Body 3x3mm, Pitch 0.65mm, IPC Medium Density)
footprint TI-DGK8_L (SOP, 8-Leads, Body 3x3mm, Pitch 0.65mm, IPC High Density)
footprint TI-DGK8_M (SOP, 8-Leads, Body 3x3mm, Pitch 0.65mm, IPC Low Density)
pins: 1 VIN- (in), 2 VOCM (in), 3 VDD (power), 4 VOUT+ (out), 5 VOUT- (out), 6 GND (power), 7 NC, 8 VIN+ (in)

## THS4121CDGKG4
designator U?
100 MHz, 43 V/us, Fully Differential CMOS Amplifier, 3 to 3.5 V, 0 to 70 degC, 8-pin SOP (DGK8), Green (RoHS & no Sb/Br); Manufacturer: Texas Instruments; PartNumber: THS4121CDGKG4; 2nd Harmonic(dBc): 79; 3rd Harmonic(dBc): 93; @ MHz: 1; BW @ Acl(MHz): 100; Iq per channel(Max)(mA): 13.5; Offset Voltage Drift (+/-)(Max)(uV/Degrees Celsius: 25; Settling Time (0.1%)(Typ)(ns): 60; Slew Rate(Typ)(V/us): 55; SubFamily: Fully Differential Amplifier; THD (Fc is 1 MHz)(Typ)(dB): -75; Vio(Max)(mV): 8; Vn at Flatband(Typ)(nV/rtHz): 5.4; Vs(Max)(V): 3.5; Vs(Min)(V): 3; DatasheetVersion: SLOS319D; PackageVersion: 4073329/E, 05/2006; PackageReference: DGK8; PackageDescription: 8-Pin Thin Small Outline, Body 3 x 3 mm, Pitch 0.65 mm; Supplier 1: Digi-Key; Supplier Part Number 1: THS4121CDGKG4-ND; Supplier 2: Mouser; Supplier Part Number 2: 595-THS4121CDGKG4; Eco-Plan: Green (RoHS & no Sb/Br); Io(Typ)(mA): 100; Number of Channels: 1; Mounting Technology: Surface Mount; Code_JEDEC: MO-187; ComponentLink1Description: Manufacturer URL; ComponentLink1URL: http://www.ti.com/; ComponentLink2Description: Datasheet; ComponentLink2URL: http://www.ti.com/general/docs/lit/getliterature.tsp?genericPartNumber=THS4121&fileType=pdf; ComponentLink3Description: Package Specification; ComponentLink3URL: http://www.ti.com/litv/pdf/mpds028d
footprint TI-DGK8_N (SOP, 8-Leads, Body 3x3mm, Pitch 0.65mm, IPC Medium Density)
footprint TI-DGK8_L (SOP, 8-Leads, Body 3x3mm, Pitch 0.65mm, IPC High Density)
footprint TI-DGK8_M (SOP, 8-Leads, Body 3x3mm, Pitch 0.65mm, IPC Low Density)
pins: 1 VIN- (in), 2 VOCM (in), 3 VDD (power), 4 VOUT+ (out), 5 VOUT- (out), 6 GND (power), 7 NC, 8 VIN+ (in)

## THS4121CDGKR
designator U?
100 MHz, 43 V/us, Fully Differential CMOS Amplifier, 3 to 3.5 V, 0 to 70 degC, 8-pin SOP (DGK8), Green (RoHS & no Sb/Br); Manufacturer: Texas Instruments; PartNumber: THS4121CDGKR; 2nd Harmonic(dBc): 79; 3rd Harmonic(dBc): 93; @ MHz: 1; BW @ Acl(MHz): 100; Iq per channel(Max)(mA): 13.5; Offset Voltage Drift (+/-)(Max)(uV/Degrees Celsius: 25; Settling Time (0.1%)(Typ)(ns): 60; Slew Rate(Typ)(V/us): 55; SubFamily: Fully Differential Amplifier; THD (Fc is 1 MHz)(Typ)(dB): -75; Vio(Max)(mV): 8; Vn at Flatband(Typ)(nV/rtHz): 5.4; Vs(Max)(V): 3.5; Vs(Min)(V): 3; DatasheetVersion: SLOS319D; PackageVersion: 4073329/E, 05/2006; PackageReference: DGK8; PackageDescription: 8-Pin Thin Small Outline, Body 3 x 3 mm, Pitch 0.65 mm; Supplier 1: Digi-Key; Supplier Part Number 1: THS4121CDGKR-ND; Supplier 2: Mouser; Supplier Part Number 2: 595-THS4121CDGKR; Eco-Plan: Green (RoHS & no Sb/Br); Io(Typ)(mA): 100; Number of Channels: 1; Mounting Technology: Surface Mount; Code_JEDEC: MO-187; ComponentLink1Description: Manufacturer URL; ComponentLink1URL: http://www.ti.com/; ComponentLink2Description: Datasheet; ComponentLink2URL: http://www.ti.com/general/docs/lit/getliterature.tsp?genericPartNumber=THS4121&fileType=pdf; ComponentLink3Description: Package Specification; ComponentLink3URL: http://www.ti.com/litv/pdf/mpds028d
footprint TI-DGK8_N (SOP, 8-Leads, Body 3x3mm, Pitch 0.65mm, IPC Medium Density)
footprint TI-DGK8_L (SOP, 8-Leads, Body 3x3mm, Pitch 0.65mm, IPC High Density)
footprint TI-DGK8_M (SOP, 8-Leads, Body 3x3mm, Pitch 0.65mm, IPC Low Density)
pins: 1 VIN- (in), 2 VOCM (in), 3 VDD (power), 4 VOUT+ (out), 5 VOUT- (out), 6 GND (power), 7 NC, 8 VIN+ (in)

## THS4121CDGKRG4
designator U?
100 MHz, 43 V/us, Fully Differential CMOS Amplifier, 3 to 3.5 V, 0 to 70 degC, 8-pin SOP (DGK8), Green (RoHS & no Sb/Br); Manufacturer: Texas Instruments; PartNumber: THS4121CDGKRG4; 2nd Harmonic(dBc): 79; 3rd Harmonic(dBc): 93; @ MHz: 1; BW @ Acl(MHz): 100; Iq per channel(Max)(mA): 13.5; Offset Voltage Drift (+/-)(Max)(uV/Degrees Celsius: 25; Settling Time (0.1%)(Typ)(ns): 60; Slew Rate(Typ)(V/us): 55; SubFamily: Fully Differential Amplifier; THD (Fc is 1 MHz)(Typ)(dB): -75; Vio(Max)(mV): 8; Vn at Flatband(Typ)(nV/rtHz): 5.4; Vs(Max)(V): 3.5; Vs(Min)(V): 3; DatasheetVersion: SLOS319D; PackageVersion: 4073329/E, 05/2006; PackageReference: DGK8; PackageDescription: 8-Pin Thin Small Outline, Body 3 x 3 mm, Pitch 0.65 mm; Supplier 1: Digi-Key; Supplier Part Number 1: THS4121CDGKRG4-ND; Supplier 2: Mouser; Supplier Part Number 2: 595-THS4121CDGKRG4; Eco-Plan: Green (RoHS & no Sb/Br); Io(Typ)(mA): 100; Number of Channels: 1; Mounting Technology: Surface Mount; Code_JEDEC: MO-187; ComponentLink1Description: Manufacturer URL; ComponentLink1URL: http://www.ti.com/; ComponentLink2Description: Datasheet; ComponentLink2URL: http://www.ti.com/general/docs/lit/getliterature.tsp?genericPartNumber=THS4121&fileType=pdf; ComponentLink3Description: Package Specification; ComponentLink3URL: http://www.ti.com/litv/pdf/mpds028d
footprint TI-DGK8_N (SOP, 8-Leads, Body 3x3mm, Pitch 0.65mm, IPC Medium Density)
footprint TI-DGK8_L (SOP, 8-Leads, Body 3x3mm, Pitch 0.65mm, IPC High Density)
footprint TI-DGK8_M (SOP, 8-Leads, Body 3x3mm, Pitch 0.65mm, IPC Low Density)
pins: 1 VIN- (in), 2 VOCM (in), 3 VDD (power), 4 VOUT+ (out), 5 VOUT- (out), 6 GND (power), 7 NC, 8 VIN+ (in)

## THS4121CDGN
designator U?
100 MHz, 43 V/us, Fully Differential CMOS Amplifier, 3 to 3.5 V, 0 to 70 degC, 8-pin SOP (DGN8), Green (RoHS & no Sb/Br); Manufacturer: Texas Instruments; PartNumber: THS4121CDGN; 2nd Harmonic(dBc): 79; 3rd Harmonic(dBc): 93; @ MHz: 1; BW @ Acl(MHz): 100; Iq per channel(Max)(mA): 13.5; Offset Voltage Drift (+/-)(Max)(uV/Degrees Celsius: 25; Settling Time (0.1%)(Typ)(ns): 60; Slew Rate(Typ)(V/us): 55; SubFamily: Fully Differential Amplifier; THD (Fc is 1 MHz)(Typ)(dB): -75; Vio(Max)(mV): 8; Vn at Flatband(Typ)(nV/rtHz): 5.4; Vs(Max)(V): 3.5; Vs(Min)(V): 3; DatasheetVersion: SLOS319D; PackageVersion: 4073271/F, 05/2011; PackageReference: DGN8-1760X1425TP; PackageDescription: 8-Pin Plastic Small Outline, Body 3 x 3 mm, Pitch 0.65 mm; Supplier 1: Digi-Key; Supplier Part Number 1: 296-34213-5-ND; Supplier 2: Mouser; Supplier Part Number 2: 595-THS4121CDGN; Eco-Plan: Green (RoHS & no Sb/Br); Io(Typ)(mA): 100; Number of Channels: 1; Mounting Technology: Surface Mount; Code_JEDEC: MO-187; ComponentLink1Description: Manufacturer URL; ComponentLink1URL: http://www.ti.com/; ComponentLink2Description: Datasheet; ComponentLink2URL: http://www.ti.com/general/docs/lit/getliterature.tsp?genericPartNumber=THS4121&fileType=pdf; ComponentLink3Description: Package Specification; ComponentLink3URL: http://www.ti.com/litv/pdf/mpds046e
footprint TI-DGN8-1760X1425TP_N (SOP, 8-Leads, Body 3x3mm, Pitch 0.65mm, Thermal Pad 1.76x1.425mm, IPC Medium Density)
footprint TI-DGN8-1760X1425TP_L (SOP, 8-Leads, Body 3x3mm, Pitch 0.65mm, Thermal Pad 1.76x1.425mm, IPC High Density)
footprint TI-DGN8-1760X1425TP_M (SOP, 8-Leads, Body 3x3mm, Pitch 0.65mm, Thermal Pad 1.76 x 1.425 mm, IPC Low Density)
pins: 1 VIN- (in), 2 VOCM (in), 3 VDD (power), 4 VOUT+ (out), 5 VOUT- (out), 6 GND (power), 7 NC, 8 VIN+ (in), 9 EP

## THS4121CDGNG4
designator U?
100 MHz, 43 V/us, Fully Differential CMOS Amplifier, 3 to 3.5 V, 0 to 70 degC, 8-pin SOP (DGN8), Green (RoHS & no Sb/Br); Manufacturer: Texas Instruments; PartNumber: THS4121CDGNG4; 2nd Harmonic(dBc): 79; 3rd Harmonic(dBc): 93; @ MHz: 1; BW @ Acl(MHz): 100; Iq per channel(Max)(mA): 13.5; Offset Voltage Drift (+/-)(Max)(uV/Degrees Celsius: 25; Settling Time (0.1%)(Typ)(ns): 60; Slew Rate(Typ)(V/us): 55; SubFamily: Fully Differential Amplifier; THD (Fc is 1 MHz)(Typ)(dB): -75; Vio(Max)(mV): 8; Vn at Flatband(Typ)(nV/rtHz): 5.4; Vs(Max)(V): 3.5; Vs(Min)(V): 3; DatasheetVersion: SLOS319D; PackageVersion: 4073271/F, 05/2011; PackageReference: DGN8-1760X1425TP; PackageDescription: 8-Pin Plastic Small Outline, Body 3 x 3 mm, Pitch 0.65 mm; Supplier 1: Digi-Key; Supplier Part Number 1: THS4121CDGNG4-ND; Supplier 2: Mouser; Supplier Part Number 2: 595-THS4121CDGNG4; Eco-Plan: Green (RoHS & no Sb/Br); Io(Typ)(mA): 100; Number of Channels: 1; Mounting Technology: Surface Mount; Code_JEDEC: MO-187; ComponentLink1Description: Manufacturer URL; ComponentLink1URL: http://www.ti.com/; ComponentLink2Description: Datasheet; ComponentLink2URL: http://www.ti.com/general/docs/lit/getliterature.tsp?genericPartNumber=THS4121&fileType=pdf; ComponentLink3Description: Package Specification; ComponentLink3URL: http://www.ti.com/litv/pdf/mpds046e
footprint TI-DGN8-1760X1425TP_N (SOP, 8-Leads, Body 3x3mm, Pitch 0.65mm, Thermal Pad 1.76x1.425mm, IPC Medium Density)
footprint TI-DGN8-1760X1425TP_L (SOP, 8-Leads, Body 3x3mm, Pitch 0.65mm, Thermal Pad 1.76x1.425mm, IPC High Density)
footprint TI-DGN8-1760X1425TP_M (SOP, 8-Leads, Body 3x3mm, Pitch 0.65mm, Thermal Pad 1.76 x 1.425 mm, IPC Low Density)
pins: 1 VIN- (in), 2 VOCM (in), 3 VDD (power), 4 VOUT+ (out), 5 VOUT- (out), 6 GND (power), 7 NC, 8 VIN+ (in), 9 EP

## THS4121CDGNR
designator U?
100 MHz, 43 V/us, Fully Differential CMOS Amplifier, 3 to 3.5 V, 0 to 70 degC, 8-pin SOP (DGN8), Green (RoHS & no Sb/Br); Manufacturer: Texas Instruments; PartNumber: THS4121CDGNR; 2nd Harmonic(dBc): 79; 3rd Harmonic(dBc): 93; @ MHz: 1; BW @ Acl(MHz): 100; Iq per channel(Max)(mA): 13.5; Offset Voltage Drift (+/-)(Max)(uV/Degrees Celsius: 25; Settling Time (0.1%)(Typ)(ns): 60; Slew Rate(Typ)(V/us): 55; SubFamily: Fully Differential Amplifier; THD (Fc is 1 MHz)(Typ)(dB): -75; Vio(Max)(mV): 8; Vn at Flatband(Typ)(nV/rtHz): 5.4; Vs(Max)(V): 3.5; Vs(Min)(V): 3; DatasheetVersion: SLOS319D; PackageVersion: 4073271/F, 05/2011; PackageReference: DGN8-1760X1425TP; PackageDescription: 8-Pin Plastic Small Outline, Body 3 x 3 mm, Pitch 0.65 mm; Supplier 1: Digi-Key; Supplier Part Number 1: THS4121CDGNR-ND; Supplier 2: Mouser; Supplier Part Number 2: 595-THS4121CDGNR; Eco-Plan: Green (RoHS & no Sb/Br); Io(Typ)(mA): 100; Number of Channels: 1; Mounting Technology: Surface Mount; Code_JEDEC: MO-187; ComponentLink1Description: Manufacturer URL; ComponentLink1URL: http://www.ti.com/; ComponentLink2Description: Datasheet; ComponentLink2URL: http://www.ti.com/general/docs/lit/getliterature.tsp?genericPartNumber=THS4121&fileType=pdf; ComponentLink3Description: Package Specification; ComponentLink3URL: http://www.ti.com/litv/pdf/mpds046e
footprint TI-DGN8-1760X1425TP_N (SOP, 8-Leads, Body 3x3mm, Pitch 0.65mm, Thermal Pad 1.76x1.425mm, IPC Medium Density)
footprint TI-DGN8-1760X1425TP_L (SOP, 8-Leads, Body 3x3mm, Pitch 0.65mm, Thermal Pad 1.76x1.425mm, IPC High Density)
footprint TI-DGN8-1760X1425TP_M (SOP, 8-Leads, Body 3x3mm, Pitch 0.65mm, Thermal Pad 1.76 x 1.425 mm, IPC Low Density)
pins: 1 VIN- (in), 2 VOCM (in), 3 VDD (power), 4 VOUT+ (out), 5 VOUT- (out), 6 GND (power), 7 NC, 8 VIN+ (in), 9 EP

## THS4121CDGNRG4
designator U?
100 MHz, 43 V/us, Fully Differential CMOS Amplifier, 3 to 3.5 V, 0 to 70 degC, 8-pin SOP (DGN8), Green (RoHS & no Sb/Br); Manufacturer: Texas Instruments; PartNumber: THS4121CDGNRG4; 2nd Harmonic(dBc): 79; 3rd Harmonic(dBc): 93; @ MHz: 1; BW @ Acl(MHz): 100; Iq per channel(Max)(mA): 13.5; Offset Voltage Drift (+/-)(Max)(uV/Degrees Celsius: 25; Settling Time (0.1%)(Typ)(ns): 60; Slew Rate(Typ)(V/us): 55; SubFamily: Fully Differential Amplifier; THD (Fc is 1 MHz)(Typ)(dB): -75; Vio(Max)(mV): 8; Vn at Flatband(Typ)(nV/rtHz): 5.4; Vs(Max)(V): 3.5; Vs(Min)(V): 3; DatasheetVersion: SLOS319D; PackageVersion: 4073271/F, 05/2011; PackageReference: DGN8-1760X1425TP; PackageDescription: 8-Pin Plastic Small Outline, Body 3 x 3 mm, Pitch 0.65 mm; Supplier 1: Digi-Key; Supplier Part Number 1: THS4121CDGNRG4-ND; Supplier 2: Mouser; Supplier Part Number 2: 595-THS4121CDGNRG4; Eco-Plan: Green (RoHS & no Sb/Br); Io(Typ)(mA): 100; Number of Channels: 1; Mounting Technology: Surface Mount; Code_JEDEC: MO-187; ComponentLink1Description: Manufacturer URL; ComponentLink1URL: http://www.ti.com/; ComponentLink2Description: Datasheet; ComponentLink2URL: http://www.ti.com/general/docs/lit/getliterature.tsp?genericPartNumber=THS4121&fileType=pdf; ComponentLink3Description: Package Specification; ComponentLink3URL: http://www.ti.com/litv/pdf/mpds046e
footprint TI-DGN8-1760X1425TP_N (SOP, 8-Leads, Body 3x3mm, Pitch 0.65mm, Thermal Pad 1.76x1.425mm, IPC Medium Density)
footprint TI-DGN8-1760X1425TP_L (SOP, 8-Leads, Body 3x3mm, Pitch 0.65mm, Thermal Pad 1.76x1.425mm, IPC High Density)
footprint TI-DGN8-1760X1425TP_M (SOP, 8-Leads, Body 3x3mm, Pitch 0.65mm, Thermal Pad 1.76 x 1.425 mm, IPC Low Density)
pins: 1 VIN- (in), 2 VOCM (in), 3 VDD (power), 4 VOUT+ (out), 5 VOUT- (out), 6 GND (power), 7 NC, 8 VIN+ (in), 9 EP

## THS4121ID
designator U?
100 MHz, 43 V/us, Fully Differential CMOS Amplifier, 3 to 3.5 V, -40 to 85 degC, 8-pin SOIC (D8), Green (RoHS & no Sb/Br); Manufacturer: Texas Instruments; PartNumber: THS4121ID; 2nd Harmonic(dBc): 79; 3rd Harmonic(dBc): 93; @ MHz: 1; BW @ Acl(MHz): 100; Iq per channel(Max)(mA): 13.5; Offset Voltage Drift (+/-)(Max)(uV/Degrees Celsius: 25; Settling Time (0.1%)(Typ)(ns): 60; Slew Rate(Typ)(V/us): 55; SubFamily: Fully Differential Amplifier; THD (Fc is 1 MHz)(Typ)(dB): -75; Vio(Max)(mV): 8; Vn at Flatband(Typ)(nV/rtHz): 5.4; Vs(Max)(V): 3.5; Vs(Min)(V): 3; DatasheetVersion: SLOS319D; PackageVersion: 4040047-3/M, 06/2011; PackageReference: D8; PackageDescription: 8-Pin Plastic Small Outline, Body 4.9 x 3.9 mm, Pitch 1.27 mm; Supplier 1: Digi-Key; Supplier Part Number 1: 296-10042-5-ND; Supplier 2: Farnell; Supplier Part Number 2: 1459435; Supplier 3: Newark; Supplier Part Number 3: 62M0364; Supplier 4: Mouser; Supplier Part Number 4: 595-THS4121ID; Eco-Plan: Green (RoHS & no Sb/Br); Io(Typ)(mA): 100; Number of Channels: 1; Mounting Technology: Surface Mount; Code_JEDEC: MS-012; ComponentLink1Description: Manufacturer URL; ComponentLink1URL: http://www.ti.com/; ComponentLink2Description: Datasheet; ComponentLink2URL: http://www.ti.com/general/docs/lit/getliterature.tsp?genericPartNumber=THS4121&fileType=pdf; ComponentLink3Description: Package Specification; ComponentLink3URL: http://www.ti.com/litv/pdf/msoi002j
footprint TI-D8_N (SOIC, 8-Leads, Body 4.9x3.9mm, Pitch 1.27mm, IPC Medium Density)
footprint TI-D8_L (SOIC, 8-Leads, Body 4.9x3.9mm, Pitch 1.27mm, IPC High Density)
footprint TI-D8_M (SOIC, 8-Leads, Body 4.9x3.9mm, Pitch 1.27mm, IPC Low Density)
pins: 1 VIN- (in), 2 VOCM (in), 3 VDD (power), 4 VOUT+ (out), 5 VOUT- (out), 6 GND (power), 7 NC, 8 VIN+ (in)